# EAGLE library part SGP40 (library Sensors Library)
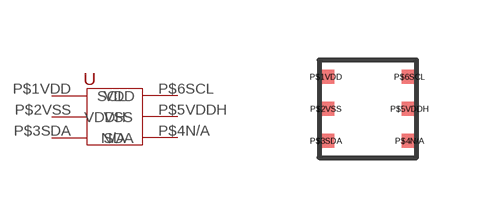
[diagram p2: symbol with the pads of SGP40; footprint SGP40]

Designator prefix -

## SGP40  [SGP40]
P$1VDD  VDD
P$2VSS  VSS
P$3SDA  SDA
P$4N/A  N/A
P$5VDDH  VDDH
P$6SCL  SCL

## Footprint SGP40 (pad centres in mm)
smd 0.4 x 0.35: P$1VDD 0.175,2.02; P$2VSS 0.175,1.22; P$3SDA 0.175,0.42; P$4N/A 2.265,0.42; P$5VDDH 2.265,1.22; P$6SCL 2.265,2.02